# Altium integrated library BopItLib.IntLib: 1 symbol
Pins are listed as number, name and electrical type; pins without a type are passive.

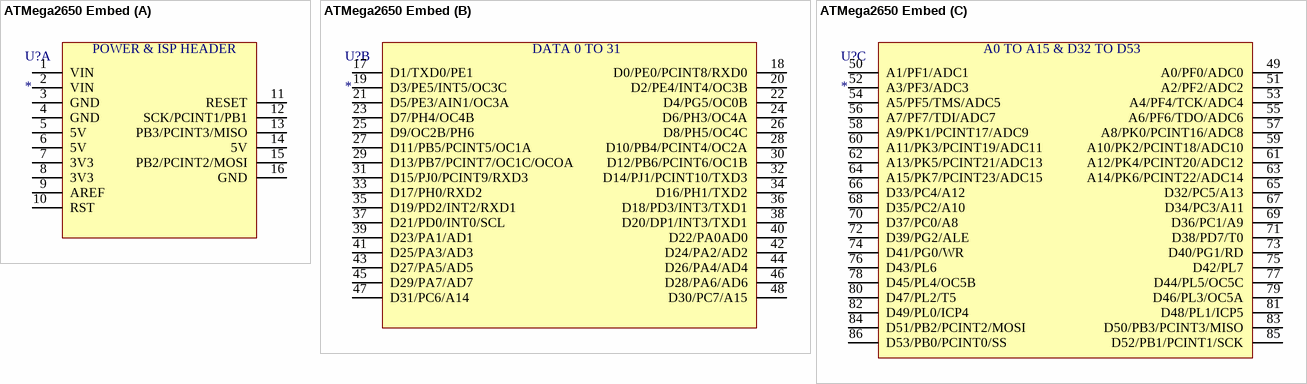
[diagram p0: symbol ATMega2650 Embed]

## ATMega2650 Embed
designator U?
footprint ATMEGA2650 Embed
part A pins: 1 VIN, 2 VIN, 3 GND, 4 GND, 5 5V, 6 5V, 7 3V3, 8 3V3, 9 AREF, 10 RST, 11 RESET, 12 SCK/PCINT1/PB1, 13 PB3/PCINT3/MISO, 14 5V, 15 PB2/PCINT2/MOSI, 16 GND
part B pins: 17 D1/TXD0/PE1, 18 D0/PE0/PCINT8/RXD0, 19 D3/PE5/INT5/OC3C, 20 D2/PE4/INT4/OC3B, 21 D5/PE3/AIN1/OC3A, 22 D4/PG5/OC0B, 23 D7/PH4/OC4B, 24 D6/PH3/OC4A, 25 D9/OC2B/PH6, 26 D8/PH5/OC4C, 27 D11/PB5/PCINT5/OC1A, 28 D10/PB4/PCINT4/OC2A, 29 D13/PB7/PCINT7/OC1C/OCOA, 30 D12/PB6/PCINT6/OC1B, 31 D15/PJ0/PCINT9/RXD3, 32 D14/PJ1/PCINT10/TXD3, 33 D17/PH0/RXD2, 34 D16/PH1/TXD2, 35 D19/PD2/INT2/RXD1, 36 D18/PD3/INT3/TXD1, 37 D21/PD0/INT0/SCL, 38 D20/DP1/INT3/TXD1, 39 D23/PA1/AD1, 40 D22/PA0AD0, 41 D25/PA3/AD3, 42 D24/PA2/AD2, 43 D27/PA5/AD5, 44 D26/PA4/AD4, 45 D29/PA7/AD7, 46 D28/PA6/AD6, 47 D31/PC6/A14, 48 D30/PC7/A15
part C pins: 49 A0/PF0/ADC0, 50 A1/PF1/ADC1, 51 A2/PF2/ADC2, 52 A3/PF3/ADC3, 53 A4/PF4/TCK/ADC4, 54 A5/PF5/TMS/ADC5, 55 A6/PF6/TDO/ADC6, 56 A7/PF7/TDI/ADC7, 57 A8/PK0/PCINT16/ADC8, 58 A9/PK1/PCINT17/ADC9, 59 A10/PK2/PCINT18/ADC10, 60 A11/PK3/PCINT19/ADC11, 61 A12/PK4/PCINT20/ADC12, 62 A13/PK5/PCINT21/ADC13, 63 A14/PK6/PCINT22/ADC14, 64 A15/PK7/PCINT23/ADC15, 65 D32/PC5/A13, 66 D33/PC4/A12, 67 D34/PC3/A11, 68 D35/PC2/A10, 69 D36/PC1/A9, 70 D37/PC0/A8, 71 D38/PD7/T0, 72 D39/PG2/ALE, 73 D40/PG1/RD, 74 D41/PG0/WR, 75 D42/PL7, 76 D43/PL6, 77 D44/PL5/OC5C, 78 D45/PL4/OC5B, 79 D46/PL3/OC5A, 80 D47/PL2/T5, 81 D48/PL1/ICP5, 82 D49/PL0/ICP4, 83 D50/PB3/PCINT3/MISO, 84 D51/PB2/PCINT2/MOSI, 85 D52/PB1/PCINT1/SCK, 86 D53/PB0/PCINT0/SS
part A text: POWER & ISP HEADER
part B text: DATA 0 TO 31
part C text: A0 TO A15 & D32 TO D53